# Altium footprint library B41888C7478M000.PCBLIB: 1 footprints
Each footprint in its own frame and in the unit in brackets; x right, y up, seen from the top. Pads: shape width x height; smd on the part's side, far side on the other; paste and mask are expansions set on the pad; w line width, h text height; cw(c..) or ccw(c..) is an arc to the next point about the centre after c.
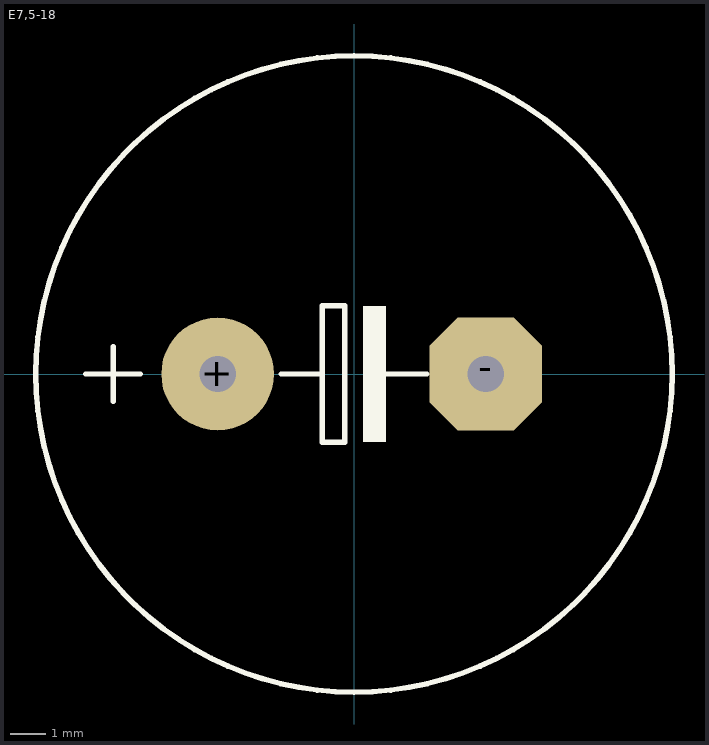
[diagram p0: the footprint, top view; thin cyan lines are the x and y axes]

## E7,5-18 [mil]
pads (2):
  round 124 hole 40: +(-150,0)
  oct 124x124 hole 40: -(145,0)
Top Overlay:
  circle w6: c0,0 r350
  rectangle: 10,-75 35,75
  lines w6: -295,0 -235,0 ; -265,-30 -265,30 ; -80,0 -35,0 ; 25,0 80,0 ; -35,0 -35,75 -10,75 -10,-75 -35,-75 -35,0